# EAGLE library part TL1963A_KTT_5 (library TL1963A)
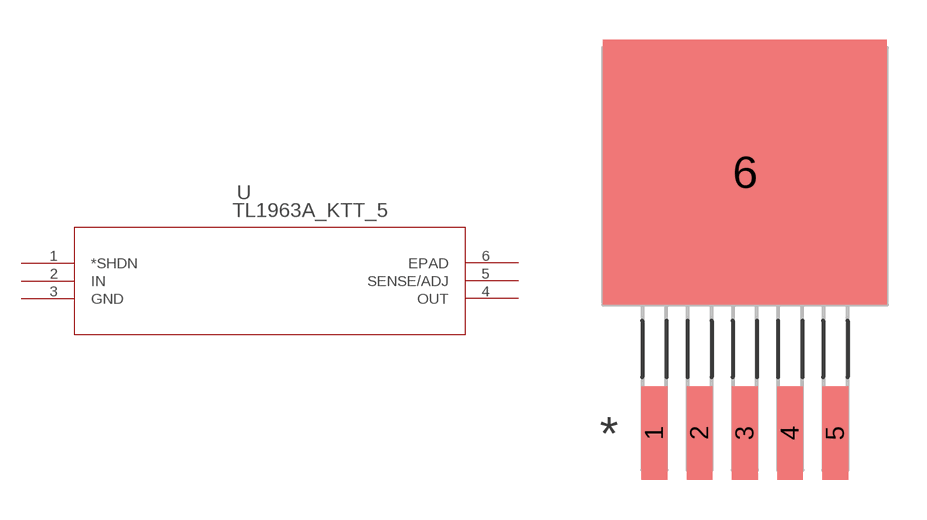
[diagram p0: symbol with the pads of KTT5_6P22X6P86; footprint KTT5_6P22X6P86]

Designator prefix U

## TL1963A_KTT_5 (DATASHEETURL: httpwww.ti.comlitgpnTL1963A; FAMILY_NAME: SINGLE CHANNEL LDO; GENERIC_PART_NUMBER: TL1963A; INDUSTRY_STD_PKG_TYPE: DDPAKTO263; MANUFACTURER: Texas Instruments; MANUFACTURER_PART_NUMBER: tl1963a_ktt_5; PACKAGE_DESIGNATOR: KTT; PIN_COUNT: 5; VENDOR: Texas Instruments)  [KTT5_6P22X6P86]
1  *SHDN  out
2  IN  in
3  GND  pwr
4  OUT  out
5  SENSE/ADJ
6  EPAD  pas

## Footprint KTT5_6P22X6P86 (pad centres in mm)
smd 0.965 x 3.505: 1 -3.4,-9.652; 2 -1.7,-9.652; 3 0,-9.652; 4 1.7,-9.652; 5 3.4,-9.652
smd 10.668 x 9.957: 6 0,0.152